# Altium schematic symbol library ICs-ImageSensors.SchLib: 1 symbol
Pins are listed as number, name and electrical type; pins without a type are passive.

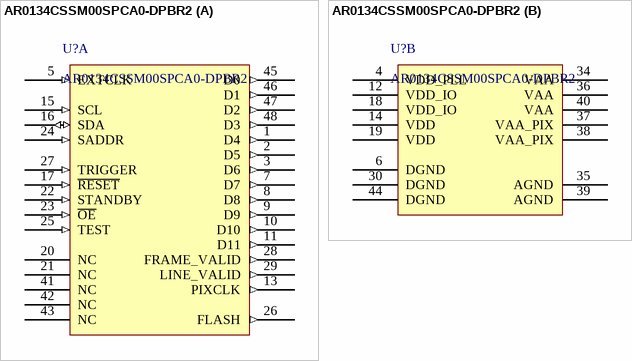
[diagram p0: symbol AR0134CSSM00SPCA0-DPBR2]

## AR0134CSSM00SPCA0-DPBR2
designator U?
Image Sensors 1.2 MP 1/3 GS CIS Image Sensor; Manufacturer: ON Semiconductor; PartNumber: AR0134CSSM00SPCA0-DPBR2; Mounting Technology: Surface Mount; PackageReference: ILCC-48
footprint ILCC-48 (LCC, 48-Pins, Body 10.00x10.00mmx1.25mm, Pitch 0.70mm, IPC Medium Density)
part A pins: 1 D4 (out), 2 D5 (out), 3 D6 (out), 5 EXTCLK (in), 7 D7 (out), 8 D8 (out), 9 D9 (out), 10 D10 (out), 11 D11 (out), 13 PIXCLK (out), 15 SCL (in), 16 SDA (io), 17 ~{RESET} (in), 20 NC, 21 NC, 22 STANDBY (in), 23 ~{OE} (in), 24 SADDR (in), 25 TEST (in), 26 FLASH (out), 27 TRIGGER (in), 28 FRAME_VALID (out), 29 LINE_VALID (out), 41 NC, 42 NC, 43 NC, 45 D0 (out), 46 D1 (out), 47 D2 (out), 48 D3 (out)
part B pins: 4 VDD_PLL (power), 6 DGND (power), 12 VDD_IO (power), 14 VDD (power), 18 VDD_IO (power), 19 VDD (power), 30 DGND (power), 34 VAA (power), 35 AGND (power), 36 VAA (power), 37 VAA_PIX (power), 38 VAA_PIX (power), 39 AGND (power), 40 VAA (power), 44 DGND (power)